# Altium schematic symbol library IAUCN08S7N013.Schlib: 1 symbol
Pins are listed as number, name and electrical type; pins without a type are passive.

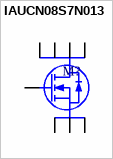
[diagram p0: symbol IAUCN08S7N013]

## IAUCN08S7N013
designator M?
80V 274A N-Channel
pins: 1 S, 2 S, 3 S, 4 G, 5 D, 6 D, 7 D, 8 D